# EAGLE library part 74ACT541MTC (library mx4660-cape)
Octal Buffer/Line Driver with 3-STATE Outputs
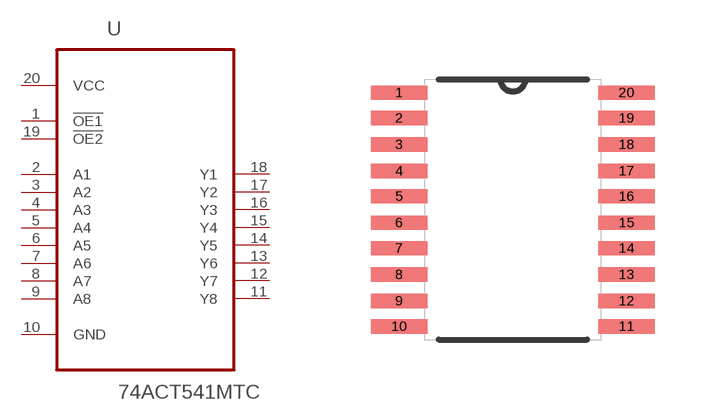
[diagram p0: symbol with the pads of TSSOP-20; footprint TSSOP-20]

Designator prefix U

## 74ACT541MTC (MPN: 74ACT541MTC; OC_FARNELL: 1467294; OC_NEWARK: 78K6190; PACKAGE: TSSOP-20; SUPPLIER: FAIRCHILD)  [TSSOP-20]
1  !OE1  in
2  A1  in
3  A2  in
4  A3  in
5  A4  in
6  A5  in
7  A6  in
8  A7  in
9  A8  in
10  GND  pas
11  Y8  out
12  Y7  out
13  Y6  out
14  Y5  out
15  Y4  out
16  Y3  out
17  Y2  out
18  Y1  out
19  !OE2  in
20  VCC  pwr

## Footprint TSSOP-20 (pad centres in mm)
smd 1.422 x 0.356: 1 -2.845,2.921; 2 -2.845,2.286; 3 -2.845,1.626; 4 -2.845,0.965; 5 -2.845,0.33; 6 -2.845,-0.33; 7 -2.845,-0.965; 8 -2.845,-1.626; 9 -2.845,-2.286; 10 -2.845,-2.921; 11 2.845,-2.921; 12 2.845,-2.286; 13 2.845,-1.626; 14 2.845,-0.965; 15 2.845,-0.33; 16 2.845,0.33; 17 2.845,0.965; 18 2.845,1.626; 19 2.845,2.286; 20 2.845,2.921